# Altium schematic symbol library SSCI.SchLib: 6 symbols
Pins are listed as number, name and electrical type; pins without a type are passive.

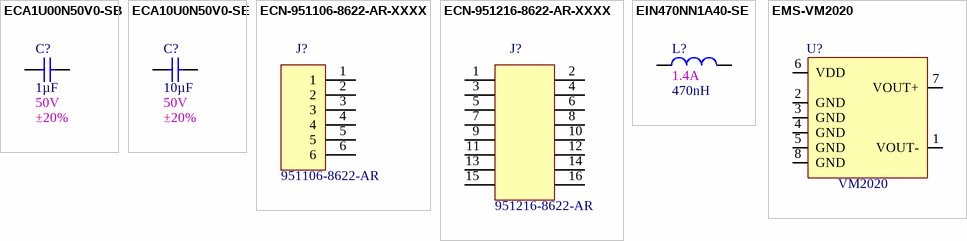
[diagram p0: symbols ECA1U00N50V0-SB to EMS-VM2020]

## ECA1U00N50V0-SB
designator C?, comment value 1µF  1st Auxiliary Field: 50V  2nd Auxiliary Field: ±20%  (hidden comment: CAP CER 1UF 50V X5R 0402)
Manufacturer: Taiyo Yuden; Manufacturer Part Number: UMK105CBJ105MV-F; Internal Part Number: ECA1U00N50V0-SB; Vendor Part Number: 587-6278-1-ND; Temp Co: -55°C ~ 85°C; 3rd Auxiliary Field: ROHS3 Compliant; Component Height (mm): 0.70mm; Vendor Name: Digi-Key; Part Type: CAP CER 1UF 50V X5R 0402; 4th Auxiliary Field: X5R
footprint SMDC0402
pins: 1, 2

## ECA10U0N50V0-SE
designator C?, comment value 10µF  1st Auxiliary Field: 50V  2nd Auxiliary Field: ±20%  (hidden comment: CAP CER 10UF 50V X5R 0805)
Manufacturer: Murata Electronics; Manufacturer Part Number: GRM21BR61H106ME43L; Internal Part Number: ECA10U0N50V0-SE; Vendor Part Number: 490-18664-1-ND; Temp Co: -55°C ~ 85°C; 3rd Auxiliary Field: ROHS3 Compliant; Component Height (mm): 1.45mm; Vendor Name: Digi-Key; Part Type: CAP CER 10UF 50V X5R 0805; 4th Auxiliary Field: X5R
footprint SMDC0805
pins: 1, 2

## ECN-951106-8622-AR-XXXX
designator J?, comment value 951106-8622-AR  (hidden comment: CONN HEADER VERT 6POS 2MM)
Manufacturer: 3M; Internal Part Number: ECN-951106-8622-AR-XXXX; Vendor Part Number: 3M156413-06-ND; 3rd Auxiliary Field: RoHS Compliant; Component Height (mm): 5.9mm; 4th Auxiliary Field: 2.00mm; Vendor Name: Digi-Key; Temp Co: -55°C ~ 125°C; 2nd Auxiliary Field: 1A; Part Type: CONN HEADER VERT 6POS 2MM; Manufacturer Part Number: 951106-8622-AR; 1st Auxiliary Field: 6 Pos
footprint HDRV6W50P200_1X6_1200X200X590P (CONN HEADER VERT 6POS 2MM)
pins: 1 (power), 2 (power), 3 (power), 4 (power), 5 (power), 6 (power)
1 alternate drawing of the same symbol

## ECN-951216-8622-AR-XXXX
designator J?, comment value 951216-8622-AR  (hidden comment: CONN HEADER VERT 16POS 2MM)
Manufacturer: 3M; Internal Part Number: ECN-951216-8622-AR-XXXX; Vendor Part Number: 3M9188-16-ND; 3rd Auxiliary Field: RoHS Compliant; Component Height (mm): 5.9mm; 4th Auxiliary Field: 2.00mm; Vendor Name: Digi-Key; Temp Co: -55°C ~ 125°C; 2nd Auxiliary Field: 1A; Part Type: CONN HEADER VERT 16POS 2MM; Manufacturer Part Number: 951216-8622-AR; 1st Auxiliary Field: 16 Pos
footprint HDRV16W50P200_2X8_1200X400X590P (CONN HEADER VERT 16POS 2MM)
pins: 1 (power), 2 (power), 3 (power), 4 (power), 5 (power), 6 (power), 7 (power), 8 (power), 9, 10, 11, 12, 13, 14, 15, 16
1 alternate drawing of the same symbol

## EIN470NN1A40-SE
designator L?, comment value 470nH  1st Auxiliary Field: 1.4A  (hidden comment: FIXED IND 470NH 1.4A 100 MOHM)
Manufacturer: Würth Elektronik; Manufacturer Part Number: 74479775147A; Vendor Part Number: 732-3434-1-ND; Internal Part Number: EIN470NN1A40-SE; Vendor Name: Digi-Key; 3rd Auxiliary Field: ±20%; 4th Auxiliary Field: ROHS3 Compliant; Component Height (mm): 1.48mm; Temp Co: -40°C ~ 125°C; Part Type: FIXED IND 470NH 1.4A 100 MOHM; 2nd Auxiliary Field: 100mOhm
footprint SMDL0805 (BLM21PG331SN1D, FERRITE CHIP 330 OHM 0805)
pins: 1, 2

## EMS-VM2020
designator U?, comment value VM2020  (hidden comment: MICROPHONE MEMS ANALOG OMNI)
Manufacturer: Vesper Technologies Inc.; Internal Part Number: EMS-VM2020; Vendor Part Number: 2022-VM2020CT-ND; 1st Auxiliary Field: 2.6V; 2nd Auxiliary Field: 80Hz ~ 10kHz; 3rd Auxiliary Field: ROHS3 Compliant; Component Height (mm): 1.4mm; Temp Co: -40°C ~ 85°C; 4th Auxiliary Field: 50dB; Vendor Name: Digi-Key; Manufacturer Part Number: VM2020; Part Type: MICROPHONE MEMS ANALOG OMNI
footprint MIC_VM2020 (MICROPHONE MEMS ANALOG OMNI)
pins: 1 VOUT-, 2 GND, 3 GND, 4 GND, 5 GND, 6 VDD, 7 VOUT+, 8 GND